# Altium schematic symbol library Sensor Package.SchLib: 153 symbols (part 1 of 2)
Pins are listed as number, name and electrical type; pins without a type are passive.

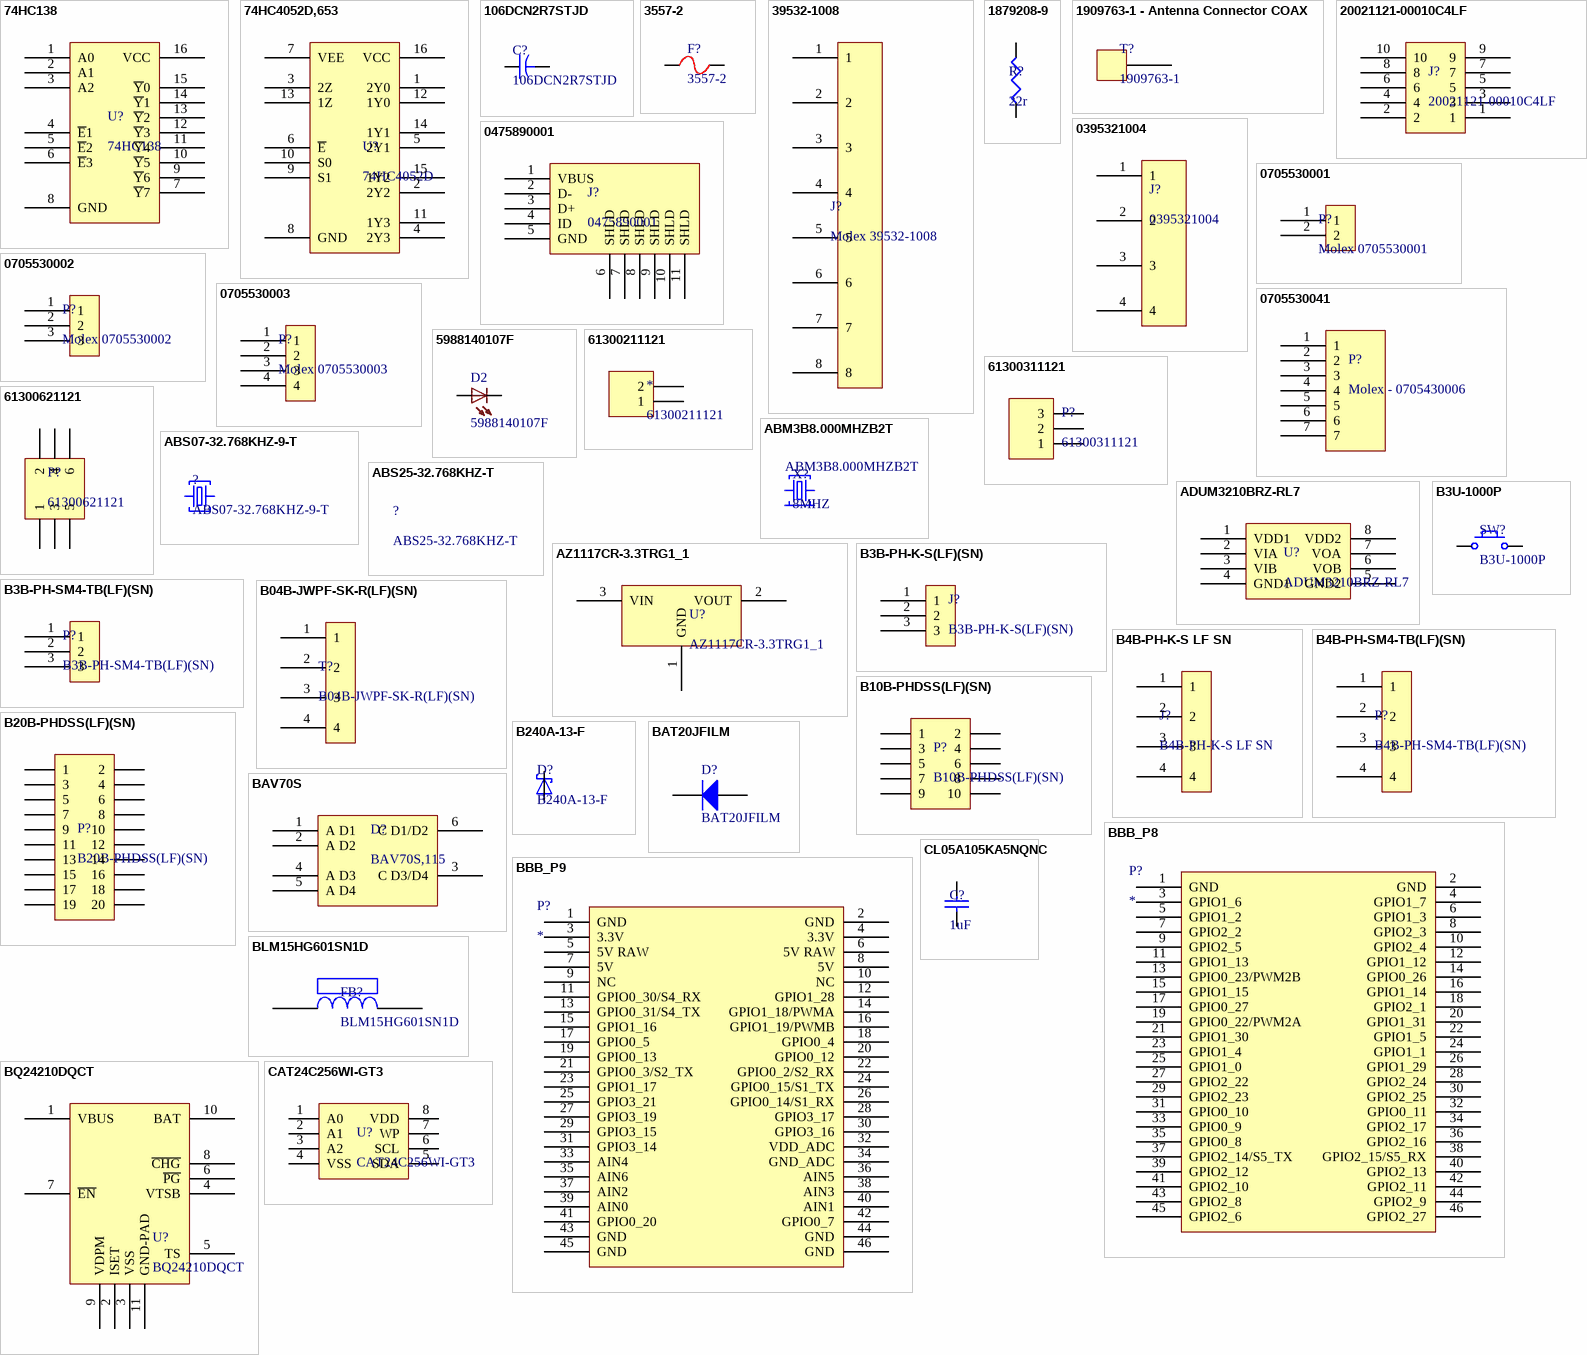
[diagram p0: symbols 74HC138 to CL05A105KA5NQNC]

## 74HC138
designator U?
3-to-8 line decoder/demultiplexer; inverting
footprint 74HC138 (SOIC, 16-Leads, Body 9.90x3.90mm, Pitch 1.27mm, IPC Medium Density)
pins: 1 A0, 2 A1, 3 A2, 4 ~{E}1, 5 ~{E}2, 6 ~{E}3, 7 ~{Y}7, 8 GND, 9 ~{Y}6, 10 ~{Y}5, 11 ~{Y}4, 12 ~{Y}3, 13 ~{Y}2, 14 ~{Y}1, 15 ~{Y}0, 16 VCC

## 74HC4052D,653
designator U?, comment 74HC4052D
IC MUX/DEMUX DUAL 4X1 16SOIC; MFR #: 74HC4052D,653; MFR: NXP-Semiconductors; Pin Count #: 16; Lead-Free ?: Yes; Voltage: 3.3V; Designer: Adam Vadala-Roth; Status: Active; Mounting: SMT/SMD; Datasheet: http://www.nxp.com/documents/data_sheet/74HC_HCT4052.pdf; Height: 1.75mm; Tolerance: N/A; Cost: 0.13695 @ 2500; Type: Analog Mux/Demux 4X1 74xx; Date Created: 14 May 2016; Last Modified: 14 May 2016
footprint 74HC4052 (SOIC, 16-Leads, Body 9.90x3.90mm, Pitch 1.27mm, IPC Medium Density)
pins: 1 2Y0, 2 2Y2, 3 2Z, 4 2Y3, 5 2Y1, 6 ~{E}, 7 VEE, 8 GND, 9 S1, 10 S0, 11 1Y3, 12 1Y0, 13 1Z, 14 1Y1, 15 1Y2, 16 VCC

## 106DCN2R7STJD
designator C?
CAP 10F -20%, +50% 2.7V T/H; MFR: Illinois Capacitor; Pin Count #: 2; Tolerance: 20%; Type: Super Capacitor; Lead-Free ?: Yes; Voltage: 2.7VDC; Designer: Adam Vadala-Roth; MFR #: 106DCN2R7STJD; Status: Available - Digikey; Mounting: Through hole; Datasheet: http://www.illinoiscapacitor.com/pdf/seriesDocuments/DCN%20series.pdf; Height: 27mm; Cost: $0.811; Date Created: 25 Feb 2016; Last Modified: 25 Feb 2016
footprint 106DCN2R7STJD
pins: 1, 2

## 3557-2
designator F?
FUSE BLOCK BLADE 500V 20A PCB; MFR: Keystone-Electronics; Pin Count #: 2; Tolerance: Active; Type: UL Certified ATO Fuse Holder; Lead-Free ?: Yes; Designer: Adam Vadala-Roth; MFR #: 3557-2; Status: Active; Mounting: SMT/SMD; Datasheet: http://keyelco.com/userAssets/file/M65p41.pdf; Height: 7.37mm; Cost: 0.59899 @ 1000; Voltage: 500V; Date Created: 6 May 2016; Last Modified: 6 May 2016; Value: *
footprint 3557
pins: 1, 2

## 39532-1008
designator J?, comment Molex 39532-1008
8 Position Terminal Block Header, Male Pins, Shrouded (4 Side) 0.200" (5.08mm) 90°, Right Angle Through Hole; Pin Count #: 8; Lead-Free ?: Yes; Voltage: 300V; Designer: Adam Vadala-Roth; MFR #: 39532-1008; MFR: Molex; Status: Active; Mounting: SMT/SMD; Datasheet: http://www.molex.com/pdm_docs/sd/395321002_sd.pdf; Height: 8.3mm; Tolerance: *; Cost: 1.26 @ 1000; Type: Terminal Block Header Connector; Date Created: 6 May 2016; Last Modified: 6 May 2016
footprint 39532-1008
pins: 1, 2, 3, 4, 5, 6, 7, 8

## 1879208-9
designator R?, comment 22r
RES SMD 22 OHM 0.1% 1/16W 0402; MFR #: 1879208-9; MFR: TE Connectivity AMP Connectors; Pin Count #: 2; Lead-Free ?: Yes; Designer: Adam Vadala-Roth; Status: Active; Mounting: SMT/SMD; Datasheet: http://www.te.com/commerce/DocumentDelivery/DDEController?Action=srchrtrv&DocNm=1879208&DocType=Customer+Drawing&DocLang=English; Height: 0.35mm; Tolerance: 0.1%; Cost: 0.10921 @ 1000; Type: Passive / Chip Resistor; Voltage: 1/16W; Date Created: 4 Apr 2016; Last Modified: 4 Apr 2016; Value: 22r
footprint R0402
pins: 1, 2

## 1909763-1 - Antenna Connector COAX
designator T?, comment 1909763-1
UMCC Connector Jack, Male Pin 50 Ohm Surface Mount Solder; MFR: TE Connectivity AMP Connectors; Pin Count #: 3; Type: COAX RF Connector; Lead-Free ?: Yes; Designer: Adam Vadala-Roth; MFR #: 1909763-1; Status: Active; Mounting: SMT/SMD; Datasheet: file:///C:/Users/adam/Downloads/ENG_CD_1909763_B2.pdf; Height: 1.25mm; Tolerance: N/A; Cost: 0.24 @ 5000; Voltage: *; Date Created: 18 Aug 2016; Last Modified: 18 Aug 2016
footprint 1909763-1 (1909763-1 Coax Antenna Connector)
pins: 1

## 20021121-00010C4LF
designator J?
20021121-00010C4LF ARM COrtex JTAG; MFR: Amphenol FCI; Pin Count #: 10; Lead-Free ?: Yes; Designer: Adam Vadala-Roth; MFR #: 20021121-00010C4LF; Status: Active; Mounting: SMT/SMD; Datasheet: http://portal.fciconnect.com/Comergent//fci/drawing/20021121.pdf; Height: 5.5mm; Tolerance: N/A; Cost: 0.32 @ 15000; Type: Passive / Pin Connector Male; Voltage: *; Date Created: 12 Mar 2016; Last Modified: 3 Apr 2016
footprint FTSH-105-XX-X-DV (1.27mm pitch, 10 pin, terminal strip; vertical, SMT)
pins: 1, 2, 3, 4, 5, 6, 7, 8, 9, 10

## 0395321004
designator J?
4 Position Terminal Block Header, Male Pins, Shrouded (4 Side) 0.200" (5.08mm) 90°, Right Angle Through Hole; MFR #: Molex,-LLC; Pin Count #: 2; Lead-Free ?: yes; Voltage: 500V; Designer: Adam Vadala-Roth; MFR: Molex,-LLC; Status: Active; Mounting: SMT/SMD; Datasheet: http://www.molex.com/pdm_docs/sd/395321002_sd.pdf; Height: 8.3mm; Tolerance: *; Cost: 0.57 @ 1000; Type: 5.08mm Pitch Right Angle Connector Molex; Date Created: 6 May 2016; Last Modified: 6 May 2016; Value: *
footprint 0395321004
pins: 1, 2, 3, 4

## 0475890001
designator J?
USB - micro AB Receptacle Connector 5 Position Surface Mount, Right Angle, Horizontal; MFR: Molex LLC; Pin Count #: 11; Lead-Free ?: Yes; Voltage: 5V; Designer: Adam Vadala-Roth; MFR #: 0475890001; Status: Active; Mounting: SMT/SMD & Through hole; Datasheet: http://www.molex.com/pdm_docs/sd/475890001_sd.pdf; Height: 2.5mm; Tolerance: N/A; Cost: 0.50908 @ 500; Type: USB micro b connector; Date Created: 17 May 2016; Last Modified: 17 May 2016
footprint 0475890001 (0475890001 - Micro USB b Molex LLC)
pins: 1 VBUS, 2 D-, 3 D+, 4 ID, 5 GND, 6 SHLD, 7 SHLD, 8 SHLD, 9 SHLD, 10 SHLD, 11 SHLD

## 0705530001
designator P?, comment Molex 0705530001
Molex 0705530002 Right Angle 2.54mm Shrouded Header; MFR: Molex; MFR#: 0705530001; Type: 2.54mm shrouded 2 pin right angle throughhole connector; Digikey #: WM4900-ND
footprint 0705530001
pins: 1, 2

## 0705530002
designator P?, comment Molex 0705530002
Molex 0705530002 Right Angle 2.54mm Shrouded Header; MFR: Molex; MFR#: 0705530002; Type: 2.54mm shrouded 3 pin right angle throughhole connector; Digikey #: WM4901-ND
footprint 0705530002
pins: 1, 2, 3

## 0705530003
designator P?, comment Molex 0705530003
Molex 0705530003 Right Angle 2.54mm Shrouded Header; MFR: Molex; MFR#: 0705530003; Type: 2.54mm shrouded 4 pin right angle throughhole connector; Digikey #: WM4902-ND
footprint 0705530003 (Molex 2.54mm 0705530003)
pins: 1, 2, 3, 4

## 0705530041
designator P?, comment Molex - 0705430006
0705530041; MFR: Molex; MFR#: 0705530041
footprint 0705530041 (Molex - 0705530041)
pins: 1, 2, 3, 4, 5, 6, 7

## 5988140107F
designator D2
LED 0805 Yellow; LastRevisionNote: ImportComponents; Published: 23-Apr-2014; Publisher: UltiMachine; LastRevisionDate: 23-Apr-2014; VALUE: 5988140107F
footprint LED2012120
pins: A, C

## 61300211121
designator *
2 Positions Header, Unshrouded Connector 0.100" (2.54mm) Through Hole Gold; MFR: Wurth-Electronics-Inc; Pin Count #: 2; Lead-Free ?: Yes; Designer: Adam Vadala-Roth; MFR #: 61300211121; Status: Active; Mounting: SMT/SMD; Datasheet: http://katalog.we-online.de/em/datasheet/6130xx11121.pdf; Height: 8.54mm; Tolerance: N/A; Cost: 0.08910 @ 500; Type: Throughhole Pin Header 2,54mm Pitch; Voltage: N/A; Date Created: 14 May 2016; Last Modified: 14 May 2016; Value: 61300211121
footprint 61300211121 (Connector; Header; 2 Position MOLEX 61300211121)
pins: 1, 2

## 61300311121
designator P?
3 Positions Header, Unshrouded Connector 0.100" (2.54mm) Through Hole Gold; MFR: Wurth-Electronics-Inc; Pin Count #: 3; Lead-Free ?: Yes; Designer: Adam Vadala-Roth; MFR #: 61300311121; Status: Active; Mounting: SMT/SMD; Datasheet: http://katalog.we-online.de/em/datasheet/6130xx11121.pdf; Height: 8.54mm; Tolerance: N/A; Cost: 0.10396 @ 500; Type: Throughhole Pin Header 2.54mm Pitch; Voltage: N/A; Date Created: 14 May 2016; Last Modified: 14 May 2016; Value: 61300311121
footprint 61300311121 (Connector; Header; 3 Position MOLEX 61300311121)
pins: 1, 2, 3

## 61300621121
designator P?
6 Positions Header, Unshrouded Connector 0.100" (2.54mm) Through Hole Gold; MFR: Wurth-Electronics-Inc; Pin Count #: 3; Lead-Free ?: Yes; Designer: Adam Vadala-Roth; MFR #: 61300621121; Status: Active; Mounting: SMT/SMD; Datasheet: http://katalog.we-online.de/em/datasheet/6130xx21121.pdf; Height: 8.54mm; Tolerance: N/A; Cost: 0.38610 @ 500; Type: Throughhole 2.54mm Pitch Pin Header; Voltage: N/A; Date Created: 14 May 2016; Last Modified: 14 May 2016; Value: 61300621121
footprint 61300621121 (Connector; Header; 3x2 Position MOLEX 61300621121)
pins: 1, 2, 3, 4, 5, 6

## ABM3B8.000MHZB2T
designator X?, comment 8MHZ  MFR #: ABM3B8.000MHZB2T
8MHz ±20ppm Crystal 18pF 200 Ohm 20°  C ~ 70°C  Surface Mount 4SMD,  No Lead (DFN, LCC); MFR: Abracon LLC; Pin Count #: 2; Lead-Free ?: Yes; Designer: Adam Vadala-Roth; Status: Active; Mounting: SMT/SMD; Datasheet: http://www.abracon.com/Resonators/abm3b.pdf; Height: 1.10mm; Tolerance: 20ppm; Cost: 0.30450 @ 5000; Type: Passive/Crystal; Voltage: *; Date Created: 31 Mar 2016; Last Modified: 31 Mar 2016; Value: 8MHZ; Loading Capacitance: 18pF
footprint ABM3B8.000MHZB2T
pins: 1 C1, 2, 3 C2, 4

## ABS07-32.768KHZ-9-T
designator ?
32.768kHz ±20ppm Crystal 9pF 70 kOhm -40°C ~ 85°C Surface Mount 2-SMD; MFR: Abracon LLC; Pin Count #: 2; Lead-Free ?: Yes; Designer: Adam Vadala-Roth; MFR #: ABS07-32.768KHZ-9-T; Status: Active; Mounting: SMT/SMD; Datasheet: http://www.abracon.com/Resonators/ABS07.pdf; Height: 2.5mm; Tolerance: ±20ppm; Cost: 0.18000 @ 3K; Type: Crystal Oscillator; Voltage: *; Date Created: 11 Mar 2016; Last Modified: 11 Mar 2016; Value: *; Loading Capacitance: 9pF
footprint ABS07-32.768KHZ-9-T (Two Pin Crystal Oscilator)
pins: 1 C1, 2 C2

## ABS25-32.768KHZ-T
designator ?
32.768kHz ±20ppm Crystal 12.5pF 50 kOhm -40°C ~ 85°C Surface Mount 4-SOJ, 5.50mm pitch; MFR: Abracon LLC; Pin Count #: 2; Lead-Free ?: Yes; Designer: Adam Vadala-Roth; MFR #: ABS25-32.768KHZ-T; Status: Active; Mounting: SMT/SMD; Datasheet: http://www.abracon.com/Resonators/abs25.pdf; Height: 2.5mm; Tolerance: ±20ppm; Cost: 0.18000 @ 3K; Type: Crystal Oscillator; Voltage: *; Date Created: 11 Mar 2016; Last Modified: 11 Mar 2016; Value: *; Loading Capacitance: 12.5pF

## ADUM3210BRZ-RL7
designator U?
DGTL ISO 2.5KV GEN PURP 8SOIC; MFR: Analog Devices; RHoS?: yes; MFR#: ADUM3210BRZ-RL7; Digikey #: ADUM3210BRZ-RL7CT-ND; Type: 8 pin SOIC; Revision Date: April 2015
footprint ADUM3210BRZ-RL7 (SOIC, 8-Leads, Body 4.90x3.90mm, Pitch 1.27mm, IPC Medium Density)
pins: 1 VDD1, 2 VIA, 3 VIB, 4 GND1, 5 GND2, 6 VOB, 7 VOA, 8 VDD2

## AZ1117CR-3.3TRG1_1
designator U?
IC REG LDO 3.3V 0.8A SOT89; MFR: Diodes Inc; Pin Count #: 4; Lead-Free ?: Yes; Voltage: 3V3; Designer: Adam Vadala-Roth; MFR #: AZ1117CR-3.3TRG1; Status: Active; Mounting: SMT/SMD; Datasheet: http://www.diodes.com/_files/datasheets/AZ1117C.pdf; Height: *; Tolerance: *; Cost: *; Type: LDO Voltage Regulator; Date Created: 8 Mar 2016; Last Modified: 8 Mar 2016
footprint AZ1117CR-3.3TRG1 - SOT89-150P410X160-3N (SOT89, 3-Leads, Body 4.50x2.45mm, Pitch 1.50mm, Lead Span 4.1mm, IPC Medium Density)
pins: 1 GND, 2 VOUT, 3 VIN

## B3B-PH-K-S(LF)(SN)
designator J?
CONN HEADER PH TOP 3POS 2MM; MFR: JST; Pin Count #: 2; Lead-Free ?: Yes; Designer: Adam Vadala-Roth; MFR #: B3B-PH-K-S(LF)(SN); Status: Available; Mounting: Throughhole; Datasheet: http://www.jst-mfg.com/product/pdf/eng/ePH.pdf; Height: *; Tolerance: *; Cost: $0.19; Type: Connector 2mm Pitch Shrouded Pin; Voltage: *; Date Created: 26 Feb 2016; Last Modified: 26 Feb 2016
footprint B3B-PH-K-S(LF)(SN)
pins: 1, 2, 3

## B3B-PH-SM4-TB(LF)(SN)
designator P?
CONN HEADER PH SIDE 3POS 2MM SMD; MFR: JST; Pin Count #: 2; Lead-Free ?: YEs; Designer: Adam Vadala-Roth; MFR #: B3B-PH-SM4-TB(LF)(SN); Status: Available; Mounting: SMT; Datasheet: http://www.jst-mfg.com/product/pdf/eng/ePH.pdf; Height: 6.6mm; Cost: 0.26; Type: 2mm Pith Shroaded Pin Male Header; Voltage: *; Date Created: 25 Feb 2016; Last Modified: 25 Feb 2016
footprint B3B-PH-SM4-TB(LF)(SN) (3 pin SMT connector)
pins: 1, 2, 3

## B3U-1000P
designator SW?
SWITCH TACTILE SPST-NO 0.05A 12V; MFR: OMRON; Pin Count #: 2; Lead-Free ?: Yes; Voltage: 12VDC; Designer: Adam Vadala-Roth; MFR #: B3U-1000P; Status: Active; Mounting: SMT/SMD; Datasheet: http://www.omron.com/ecb/products/pdf/en-b3u.pdf; Height: 1.6; Tolerance: N/A; Cost: 0.55 @7000; Type: Passive/Switch; Date Created: 2 Apr 2016; Last Modified: 2 Apr 2016
footprint B3U-1000P (Tactile Switch    B3U-1000P)
pins: 1, 2

## B04B-JWPF-SK-R(LF)(SN)
designator T?
4 Positions Header, Shrouded Connector 0.079" (2.00mm) Through Hole Tin; MFR: JST Sales America Inc.; Pin Count #: 4; Lead-Free ?: Yes; Voltage: 100V; Designer: Adam Vadala-Roth; MFR #: B04B-JWPF-SK-R(LF)(SN); Status: Active; Mounting: Through Hole; Datasheet: http://www.jst-mfg.com/product/pdf/eng/eJWPF1.pdf; Height: *; Tolerance: N/A; Cost: $2.14; Type: Connector; Date Created: 8/14/2016; Last Modified: 8/14/2016
footprint B04B-JWPF-SK-R(LF)(SN)
pins: 1, 2, 3, 4

## B4B-PH-K-S LF SN
designator J?
CONN HEADER PH TOP 4POS 2MM; MFR #: B4B-PH-K-S(LF)(SN); MFR: JST; Pin Count #: 2; Lead-Free ?: Yes; Designer: Adam Vadala-Roth; Status: Available; Mounting: Throughhole; Datasheet: http://www.jst-mfg.com/product/pdf/eng/ePH.pdf; Height: *; Tolerance: *; Cost: $0.24; Type: Connector 2mm Pitch Shrouded Pin; Voltage: *; Date Created: 26 Feb 2016; Last Modified: 26 Feb 2016
footprint B4B-PH-K-S(LF)(SN)
pins: 1, 2, 3, 4

## B4B-PH-SM4-TB(LF)(SN)
designator P?
CONN HEADER PH SIDE 4POS 2MM SMD; MFR: JST; Pin Count #: 2; Lead-Free ?: YEs; Designer: Adam Vadala-Roth; MFR #: B4B-PH-SM4-TB(LF)(SN); Status: Available; Mounting: SMT; Datasheet: http://www.jst-mfg.com/product/pdf/eng/ePH.pdf; Height: 6.6mm; Cost: 0.26; Type: 2mm Pith Shroaded Pin Male Header; Voltage: *; Date Created: 25 Feb 2016; Last Modified: 25 Feb 2016
footprint B4B-PH-SM4-TB(LF)(SN)
pins: 1, 2, 3, 4

## B10B-PHDSS(LF)(SN)
designator P?
10 Positions Header, Shrouded Connector 0.079" (2.00mm) Through Hole Tin; MFR: JST Sales America Inc.; Pin Count #: 10; Lead-Free ?: Yes; Designer: Adam Vadala-Roth; MFR #: B10B-PHDSS(LF)(SN); Status: Active; Mounting: Through Hole; Datasheet: http://www.jst-mfg.com/product/pdf/eng/ePHD.pdf; Height: 8.6mm; Tolerance: N/A; Cost: 0.216 @ 2500; Type: Shrouded 2mm pitch pin connector; Voltage: N/A; Date Created: 28 Apr 2016; Last Modified: 28 Apr 2016
footprint B10B-PHDSS(LF)(SN) (10 Positions Header, Shrouded Connector 0.079" (2.00mm) Through Hole Tin)
pins: 1, 2, 3, 4, 5, 6, 7, 8, 9, 10

## B20B-PHDSS(LF)(SN)
designator P?
20 Positions Header, Shrouded Connector 0.079" (2.00mm) Through Hole Tin; MFR: JST Sales America Inc.; Pin Count #: 20; Lead-Free ?: Yes; Designer: Adam Vadala-Roth; MFR #: B20B-PHDSS(LF)(SN); Status: Active; Mounting: Through Hole; Datasheet: http://www.jst-mfg.com/product/pdf/eng/ePHD.pdf; Height: 8.6mm; Tolerance: N/A; Cost: 0.34 @ 2500; Type: Shrouded 2mm pitch pin connector; Voltage: N/A; Date Created: 28 Apr 2016; Last Modified: 28 Apr 2016
footprint B20B-PHDSS(LF)(SN) (20 Pin 2mm Pitch Throughhole shrouded Male Pin Connector)
pins: 1, 2, 3, 4, 5, 6, 7, 8, 9, 10, 11, 12, 13, 14, 15, 16, 17, 18, 19, 20

## B240A-13-F
designator D?
DIODE SCHOTTKY 40V 2A SMA; MFR: Diodes-Incorporated; Pin Count #: 2; Type: Schottky Diode; Lead-Free ?: Yes; Designer: Adam Vadala-Roth; MFR #: B240A-13-F; Status: Active; Mounting: SMT/SMD; Datasheet: http://www.diodes.com/_files/datasheets/ds13004.pdf; Height: 2.3mm; Tolerance: *; Cost: 0.0935 @ 10K; Voltage: 40V; Date Created: 6 May 2016; Last Modified: 6 May 2016
footprint B240A-13-F
pins: A, C

## BAT20JFILM
designator D?
DIODE SCHOTTKY 23V 1A SOD323; MFR: ST Microelectronics; Designer: Adam J Valala-Roth; Published: 25 Feb 2016; LatestRevisionDate: 25 Feb 2016; Mounting: SMT; Publisher: Altium Limited; Package: DO-214-AB/SMC; 2 C-Bend Leads; Body 7.9 x 5.9 mm, inc. leads (LxW); MFR #: BAT20JFILM; Digikey #: 497-3381-1-ND; Height: *; Cost: $0.44
simulation model DIODE (Diode)
signal-integrity model Diode
footprint BAT20JFILM - DIOM1712X11N (Molded Diode, 2-Leads, Body 1.66x1.23mm, IPC Medium Density)
pins: 1 A, 2 K

## BAV70S
designator D?, comment BAV70S,115
DIODE ARRAY GP 100V 250MA 6TSSOP; MFR: NXP; Pin Count #: 6; Lead-Free ?: Yes; Designer: Adam Vadala-Roth; MFR #: BAV70S,115; Status: Active; Mounting: SMT/SMD; Datasheet: http://www.nxp.com/documents/data_sheet/BAV70_SER.pdf; Height: 1.1mm; Tolerance: N/A; Cost: 0.055 @ 15K; Type: Diode Array; Voltage: 100V; Date Created: 1 May 2016; Last Modified: 1 May 2016
footprint BAV70S (SOTFL, 6-Leads, Body 2.00x2.10mm, Pitch 0.65mm, IPC Medium Density)
pins: 1 A D1, 2 A D2, 3 C D3/D4, 4 A D3, 5 A D4, 6 C D1/D2

## BBB_P8
designator P?
footprint BBB_CAPE_HEADER (46-pin male header for BeagleBone Black P8,P9)
pins: 1 GND, 2 GND, 3 GPIO1_6, 4 GPIO1_7, 5 GPIO1_2, 6 GPIO1_3, 7 GPIO2_2, 8 GPIO2_3, 9 GPIO2_5, 10 GPIO2_4, 11 GPIO1_13, 12 GPIO1_12, 13 GPIO0_23/PWM2B, 14 GPIO0_26, 15 GPIO1_15, 16 GPIO1_14, 17 GPIO0_27, 18 GPIO2_1, 19 GPIO0_22/PWM2A, 20 GPIO1_31, 21 GPIO1_30, 22 GPIO1_5, 23 GPIO1_4, 24 GPIO1_1, 25 GPIO1_0, 26 GPIO1_29, 27 GPIO2_22, 28 GPIO2_24, 29 GPIO2_23, 30 GPIO2_25, 31 GPIO0_10, 32 GPIO0_11, 33 GPIO0_9, 34 GPIO2_17, 35 GPIO0_8, 36 GPIO2_16, 37 GPIO2_14/S5_TX, 38 GPIO2_15/S5_RX, 39 GPIO2_12, 40 GPIO2_13, 41 GPIO2_10, 42 GPIO2_11, 43 GPIO2_8, 44 GPIO2_9, 45 GPIO2_6, 46 GPIO2_27

## BBB_P9
designator P?
footprint BBB_CAPE_HEADER (46-pin male header for BeagleBone Black P8,P9)
pins: 1 GND, 2 GND, 3 3.3V, 4 3.3V, 5 5V RAW, 6 5V RAW, 7 5V, 8 5V, 9 NC, 10 NC, 11 GPIO0_30/S4_RX, 12 GPIO1_28, 13 GPIO0_31/S4_TX, 14 GPIO1_18/PWMA, 15 GPIO1_16, 16 GPIO1_19/PWMB, 17 GPIO0_5, 18 GPIO0_4, 19 GPIO0_13, 20 GPIO0_12, 21 GPIO0_3/S2_TX, 22 GPIO0_2/S2_RX, 23 GPIO1_17, 24 GPIO0_15/S1_TX, 25 GPIO3_21, 26 GPIO0_14/S1_RX, 27 GPIO3_19, 28 GPIO3_17, 29 GPIO3_15, 30 GPIO3_16, 31 GPIO3_14, 32 VDD_ADC, 33 AIN4, 34 GND_ADC, 35 AIN6, 36 AIN5, 37 AIN2, 38 AIN3, 39 AIN0, 40 AIN1, 41 GPIO0_20, 42 GPIO0_7, 43 GND, 44 GND, 45 GND, 46 GND

## BLM15HG601SN1D
designator FB?
FERRITE BEAD 600 OHM 0402 1LN; MFR: Murata Electronics North America; Pin Count #: 2; Tolerance: 700 mOhm; Type: Passive / Ferrite; Lead-Free ?: Yes; Voltage: 3.3VDC; Designer: Adam Vadala-Roth; MFR #: BLM15HG601SN1D; Status: Active; Mounting: SMT/SMD; Datasheet: http://search.murata.co.jp/Ceramy/image/img/PDF/ENG/L0110S0101BLM15H.pdf; Height: 0.55mm; Cost: 0.05090 @ 10000; Date Created: 4 Apr 2016; Last Modified: 2 Apr 2016; Value: BLM15HG601SN1D
footprint BLM15HG601SN1D (Chip Inductor, 2-Leads, Body 1.00x0.50mm, IPC Medium Density)
pins: 1, 2

## BQ24210DQCT
designator U?
IC BATT CHARGER LI-ION 10WSON (USB & SOLAR Input); MFR: Texas Instruments; Pin Count #: 8; Lead-Free ?: Yes; Voltage: 3.5-18V; Designer: Adam J Vadala-Roth; MFR #: BQ24210DQCT; Status: Active; Mounting: SMT/SMD; Datasheet: http://www.ti.com/lit/ds/symlink/bq24210.pdf; Height: 0.8mm; Tolerance: N/A; Cost: 1.46250 @ 1250; Type: Solar Battery charger; Date Created: 6 Mar 2016; Last Modified: 6 Mar 2016
footprint bq24210 - QFN50P300X200X80-10N (QFN, 10-Leads, Body 3.00x2.00mm, Pitch 0.50mm, IPC Medium Density)
pins: 1 VBUS, 2 ISET, 3 VSS, 4 VTSB, 5 TS, 6 ~{PG}, 7 ~{EN}, 8 ~{CHG}, 9 VDPM, 10 BAT, 11 GND-PAD

## CAT24C256WI-GT3
designator U?
IC EEPROM 256KBIT 400KHZ 8SOIC; MFR: ON-Semiconductor; Pin Count #: 6; Lead-Free ?: Active; Voltage: 3.3v; Designer: Adam Vadala-Roth; MFR #: CAT24C256WI-GT3; Status: Active; Mounting: SMT/SMD; Datasheet: http://www.onsemi.com/pub_link/Collateral/CAT24C256-D.PDF; Height: 1.75mm; Tolerance: *; Cost: 0.21879 @ 6k; Type: EEEPROM; Date Created: 6 May 2016; Last Modified: 6 May 2016
footprint CAT24C256 (SOIC 8)
pins: 1 A0, 2 A1, 3 A2, 4 VSS, 5 SDA, 6 SCL, 7 WP, 8 VDD

## CL05A105KA5NQNC
designator C?, comment 1uF
1µF ±10% 25V X5R Ceramic Capacitor -55°C ~ 85°C Surface Mount, MLCC 0402 (1005 Metric) 0.039" L x 0.020" W (1.00mm x 0.50mm); MFR #: CL05A105KA5NQNC; MFR: Samsung-Electro-Mechanics-America,-Inc.; Pin Count #: 2; Type: Ceramic Capacitor 0402; Lead-Free ?: Yes; Designer: Adam Vadala-Roth; Status: Active; Mounting: SMT/SMD; Datasheet: https://media.digikey.com/pdf/Data%20Sheets/Samsung%20PDFs/CL_Series_MLCC_ds.pdf; Height: 0.55mm; Tolerance: 10%; Cost: 0.04830 @ 10000; Voltage: 25V; Date Created: 13 May 2016; Last Modified: 13 May 2016; Value: 1uF
footprint C0402
pins: 1, 2

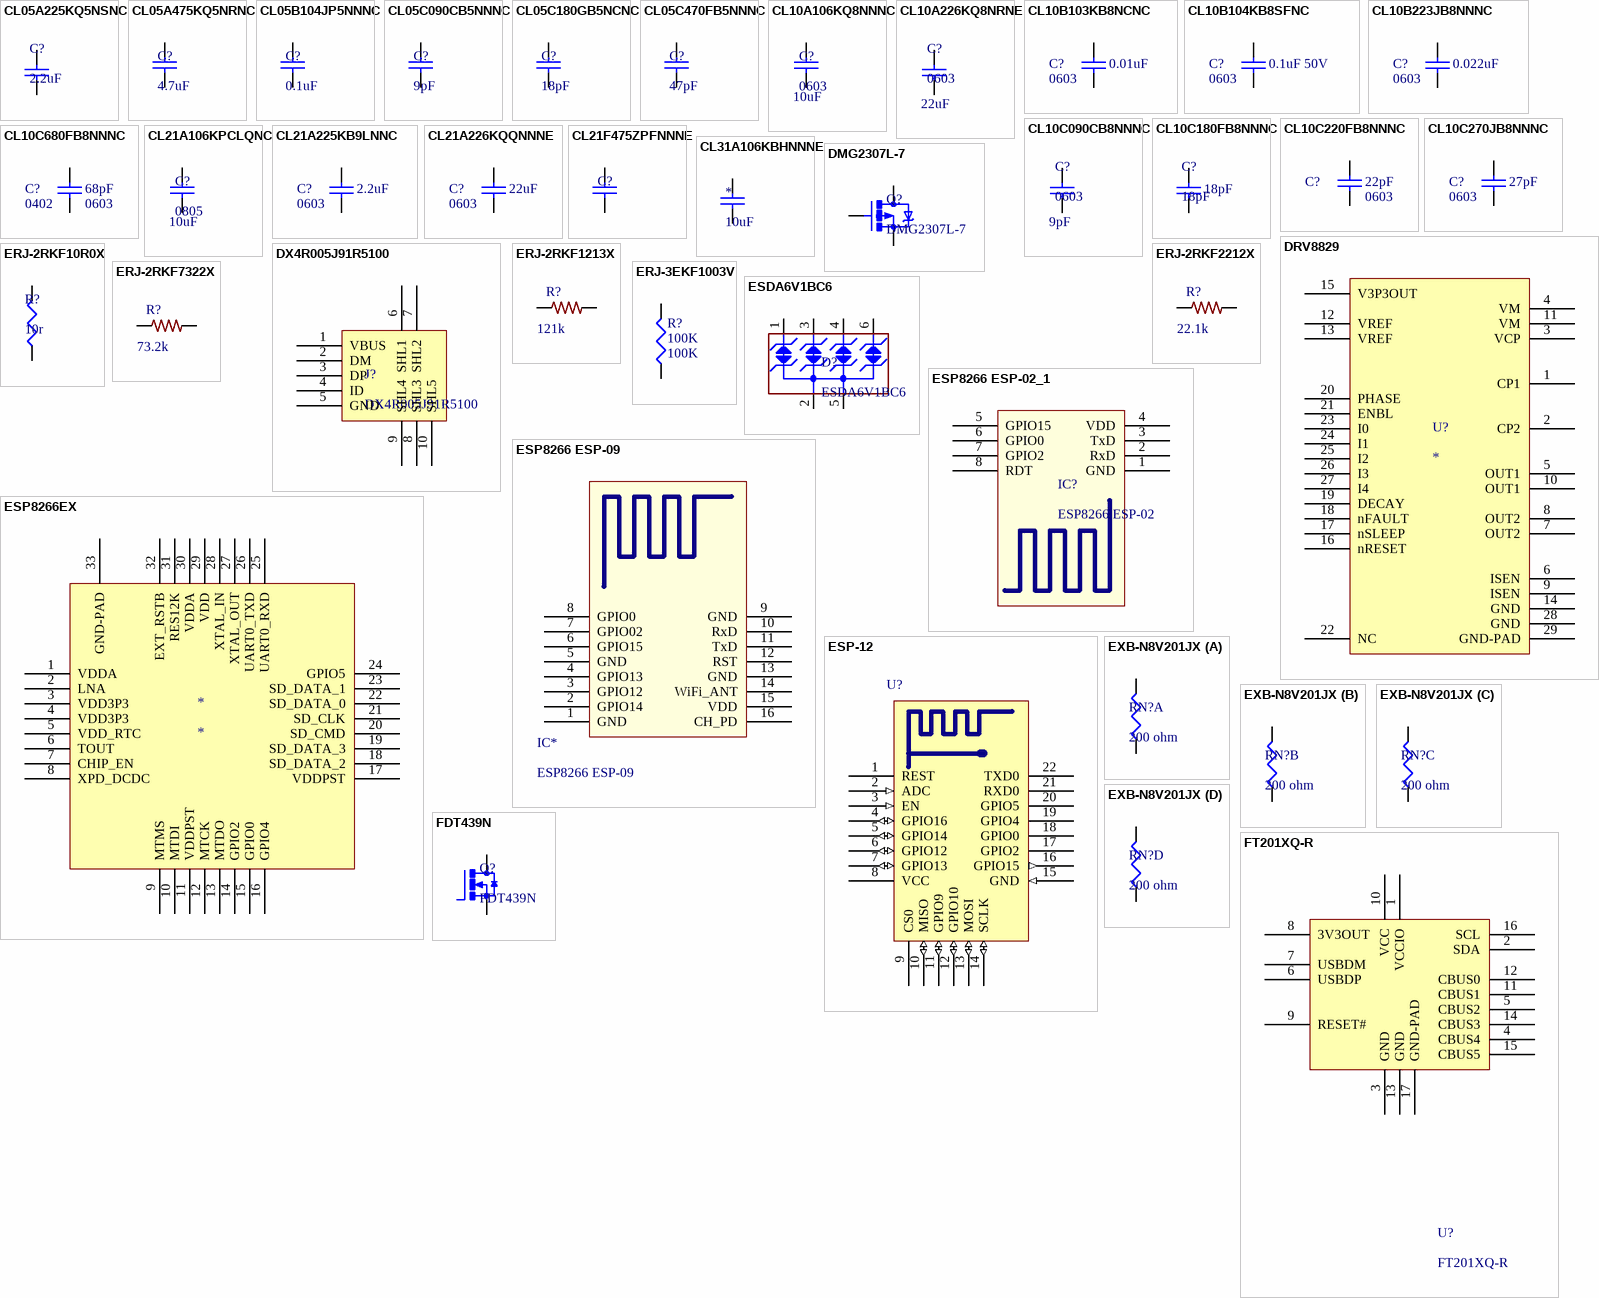
[diagram p1: symbols CL05A225KQ5NSNC to FT201XQ-R]

## CL05A225KQ5NSNC
designator C?, comment 2.2uF
CAP CER 2.2UF 6.3V X5R 0402; MFR #: CL05A225KQ5NSNC; MFR: Samsung Electro-Mechanics America, Inc.; Pin Count #: 2; Tolerance: 10%; Type: Passive/Cap; Lead-Free ?: Yes; Voltage: 6.3VDC; Designer: Adam Vadala-Roth; Status: Active; Mounting: SMT/SMD; Datasheet: http://media.digikey.com/pdf/Data%20Sheets/Samsung%20PDFs/CL_Series_MLCC_ds.pdf; Height: 0.55mm; Cost: 0.02936 @ 10,000; Date Created: 31 Mar 2016; Last Modified: 31 Mar 2016; Value: 2.2uF
footprint C0402
pins: 1, 2

## CL05A475KQ5NRNC
designator C?, comment 4.7uF
CAP CER 4.7UF 6.3V X5R 0402; MFR #: CL05A475KQ5NRNC; MFR: Samsung Electro-Mechanics America; Pin Count #: 2; Tolerance: 10%; Type: Passive/Ceramic Cap; Lead-Free ?: Yes; Voltage: 6.3VDC; Designer: Adam Vadala-Roth; Status: Active; Mounting: SMT/SMD; Datasheet: http://www.samsungsem.com/kr/support/product-search/mlcc/CL05A475KQ5NRNC.jsp; Height: 0.55mm; Cost: 0.08 @ 10000; Date Created: 4 Apr 2016; Last Modified: 4 Apr 2016; Value: 4.7uF
footprint C0402
pins: 1, 2

## CL05B104JP5NNNC
designator C?, comment 0.1uF
CAP CER 0.1UF 10V X7R 0402; MFR #: CL05B104JP5NNNC; MFR: Samsung Electro-Mechanics America, Inc.; Pin Count #: 2; Tolerance: 5%; Type: Passive/Ceramic Cap; Lead-Free ?: Yes; Voltage: 10; Designer: Adam Vadala-Roth; Status: Active; Mounting: SMT/SMD; Datasheet: https://www.samsungsem.com/kr/front/downloadcms.do?path=/kr/support/product-search/mlcc/__icsFiles/afieldfile/2014/11/05&fileName=C_CL05B104JP5NNNC.pdf; Height: 0.55mm; Cost: 0.00758 @ 10,000; Date Created: 2 Apr 2016; Last Modified: 2 Apr 2016; Value: 0.1uF
footprint C0402
pins: 1, 2

## CL05C090CB5NNNC
designator C?, comment 9pF
CAP CER 9PF 50V NP0 0402; MFR #: CL05C090CB5NNNC; MFR: Samsung Electro-Mechanics America, Inc.; Pin Count #: 2; Tolerance: 0.25pF; Type: Passive / Ceramic Cap; Lead-Free ?: Yes; Voltage: 50; Designer: Adam Vadala-Roth; Status: Active; Mounting: SMT/SMD; Datasheet: http://media.digikey.com/pdf/Data%20Sheets/Samsung%20PDFs/CL_Series_MLCC_ds.pdf; Height: 0.55mm; Cost: 0.00462 @ 10,000; Date Created: 2 Apr 2016; Last Modified: 2 Apr 2016; Value: 9pF
footprint C0402
pins: 1, 2

## CL05C180GB5NCNC
designator C?, comment 18pF
CAP CER 18PF 50V NP0 0402; MFR #: CL05C180GB5NCNC; MFR: Samsung Electro-Mechanics America, Inc.; Pin Count #: 2; Tolerance: 2%; Type: Passive/Ceramic Cap; Lead-Free ?: yes; Designer: Adam Vadala-Roth; Status: Active; Mounting: SMT/SMD; Datasheet: http://media.digikey.com/pdf/Data%20Sheets/Samsung%20PDFs/CL_Series_MLCC_ds.pdf; Height: 0.55mm; Cost: 0.00756 @ 10,000; Voltage: 50V; Date Created: 2 Apr 2016; Last Modified: 2 Apr 2016; Value: 18pF
footprint C0402
pins: 1, 2

## CL05C470FB5NNNC
designator C?, comment 47pF
47pF ±1% 50V C0G, NP0 Ceramic Capacitor -55°C ~ 125°C Surface Mount, MLCC 0402 (1005 Metric) 0.039" L x 0.020" W (1.00mm x 0.50mm); MFR #: CL05C470FB5NNNC; MFR: Samsung-Electro-Mechanics-America,-Inc.; Pin Count #: 2; Type: Ceramic Cap 0402; Lead-Free ?: Yes; Designer: Adam Vadala-Roth; Status: Active; Mounting: SMT/SMD; Datasheet: https://media.digikey.com/pdf/Data%20Sheets/Samsung%20PDFs/CL_Series_MLCC_ds.pdf; Height: 0.55mm; Tolerance: 1%; Cost: 0.01335 @ 5000; Voltage: 50V; Date Created: 14 May 2016; Last Modified: 14 May 2016; Value: 47pF
footprint C0402
pins: 1, 2

## CL10A106KQ8NNNC
designator C?, comment 0603  value 10uF
CAP CER 10UF 6.3V X5R 0603; MFR #: CL10A106KQ8NNNC; MFR: Samsung Electro-Mechanics America, Inc.; Pin Count #: 2; Tolerance: 10%; Type: Capacitor / Passive; Lead-Free ?: Yes; Designer: Adam Vadala-Roth; Status: Available; Mounting: SMT; Datasheet: http://www.samsungsem.com/kr/support/product-search/mlcc/__icsFiles/afieldfile/2015/08/14/S_CL10A106KQ8NNNC.pdf; Height: 0.9mm; Cost: $0.05145; Voltage: 6.3V; Date Created: 25 Feb 2016; Last Modified: 25 Feb 2016
footprint C0603
pins: 1, 2

## CL10A226KQ8NRNE
designator C?, comment 0603  value 22uF
CAP CER 22UF 6.3V X5R 0603; MFR #: CL10A226KQ8NRNE; MFR: Samsung Electro-Mechanics America, Inc.; Pin Count #: 2; Tolerance: 10%; Type: Capacitor / Passive; Lead-Free ?: Yes; Designer: Adam Vadala-Roth; Status: Available; Mounting: SMT; Datasheet: https://media.digikey.com/pdf/Data%20Sheets/Samsung%20PDFs/CL10A226KQ8NRNE_Spec.pdf; Height: 0.9mm; Cost: $0.07416 @ 3000; Voltage: 6.3V; Date Created: 25 Feb 2016; Last Modified: 25 Feb 2016
footprint C0603
pins: 1, 2

## CL10B103KB8NCNC
designator C?, comment 0603  value 0.01uF
CAP CER 10000PF 50V 10% X7R 0603; MFR Part #: CL10B103KB8NCNC; MFR: Samsung; Voltage: 50VDC; Published: 10 - Dec - 2014; LatestRevisionDate: April 2015; Component Type: Chip Capacitor; Part Description: CAP CER 10000PF 50V 10% X7R 0603; Mounting Type: SMT 0603; Datasheet: http://www.samsungsem.com/kr/front/downloadcms.do?path=/kr/support/product-search/mlcc/__icsFiles/afieldfile/2014/11/05&fileName=S_CL10B103KB8NCNC.pdf; Height: 0.9mm; Tolerance: 10%; Digikey #: 1276-1921-1-ND; PackageReference: 0603
simulation model CAP (Semiconductor Capacitor)
signal-integrity model Cap Semi
footprint C0603
pins: 1, 2

## CL10B104KB8SFNC
designator C?, comment 0603  value 0.1uF 50V
CAP CER 0.1UF 50V 10% X7R 0603; MFR Part #: CL10B104KB8SFNC; MFR: Samsung; Voltage: 50VDC; Published: 10 - Dec - 2014; LatestRevisionDate: April 2015; Component Type: Chip Capacitor; Part Description: CAP CER 0.1UF 50V 10% X7R 0603; Mounting Type: SMT 0603; Datasheet: http://www.samsungsem.com/kr/front/downloadcms.do?path=/kr/support/product-search/mlcc/__icsFiles/afieldfile/2014/11/05&fileName=S_CL10B104KB8SFNC.pdf; Height: 0.9mm; Tolerance: 10%; Digikey #: 1276-1936-1-ND; PackageReference: 0603
simulation model CAP (Semiconductor Capacitor)
signal-integrity model Cap Semi
footprint C0603
pins: 1, 2

## CL10B223JB8NNNC
designator C?, comment 0603  value 0.022uF
CAP CER 0.022UF 50V 5% X7R 0603; MFR Part #: CL10B223JB8NNNC; MFR: Samsung; Tolerance: 10%; Voltage: 50VDC; Published: 10 - Dec - 2014; LatestRevisionDate: April 2015; Component Type: Chip Capacitor; Part Description: CAP CER 0.022UF 50V 5% X7R 0603; Mounting Type: SMT 0603; Datasheet: http://www.samsungsem.com/kr/front/downloadcms.do?path=/kr/support/product-search/mlcc/__icsFiles/afieldfile/2014/11/05&fileName=S_CL10B223JB8NNNC.pdf; Height: 0.9mm; Digikey #: 1276-1996-1-ND; PackageReference: 0603
simulation model CAP (Semiconductor Capacitor)
signal-integrity model Cap Semi
footprint C0603
pins: 1, 2

## CL10C090CB8NNNC
designator C?, comment 0603  value 9pF
CAP CER 9PF 50V NP0 0603; MFR #: CL10C090CB8NNNC; MFR: Samsung Electro-Mechanics America, Inc.; Pin Count #: 2; Tolerance: 10%; Type: Capacitor / Passive; Lead-Free ?: Yes; Voltage: 6.3V; Designer: Adam Vadala-Roth; Status: Available; Mounting: SMT; Datasheet: http://www.samsungsem.com/kr/support/product-search/mlcc/__icsFiles/afieldfile/2015/06/03/CL10C090CB8NNNC.pdf; Height: 0.9mm; Cost: $0.00805 @ 4000; Date Created: 11 Mar 2016; Last Modified: 11 Mar 2016
footprint C0603
pins: 1, 2

## CL10C180FB8NNNC
designator C?, comment 18pF
CAP CER 18PF 50V NP0 0603; MFR #: CL10C180FB8NNNC; MFR: Samsung ElectroMechanics; Pin Count #: 2; Tolerance: 1%; Type: Passive/Cap; Lead-Free ?: Yes; Voltage: 50VDC; Designer: Adam Vadala-Roth; Status: Active; Mounting: SMT/SMD; Datasheet: http://media.digikey.com/pdf/Data%20Sheets/Samsung%20PDFs/CL10C180FB8NNNC_Spec.pdf; Height: 0.9mm; Cost: 0.02387 @ 4000; Date Created: 31 Mar 2016; Last Modified: 31 Mar 2016; Value: 18pF
footprint C0603
pins: 1, 2

## CL10C220FB8NNNC
designator C?, comment value 22pF  (hidden comment: 0603)  (mechanical)
CAP CER 22PF 50V NP0 0603; MFR Part #: CL10C220FB8NNNC; MFR: Samsung; Tolerance: 1%; Voltage: 50VDC; Published: 22 - Feb - 2016; LatestRevisionDate: 22 - Feb - 2016; LatestRevisionNote: HydroPWNics FOotprint added; Publisher: HydroPWNics; Component Type: Chip Capacitor; Part Description: CAP CER 22PF 50V NP0 0603; Mounting Type: SMT 0603; Datasheet: http://www.samsungsem.com/global/front/downloadcms.do?path=%2F%2Fglobal%2F%2Fsupport%2F%2Flibrary%2F%2Fproduct-catalog%2F%2F__icsFiles%2F%2Fafieldfile%2F%2F2015%2F%2F11%2F%2F18&fileName=MLCC_1.pdf; Height: 0.50mm; PackageReference: 0603
simulation model CAP (Semiconductor Capacitor)
signal-integrity model Cap Semi
footprint C0603
pins: 1, 2

## CL10C270JB8NNNC
designator C?, comment 0603  value 27pF
CAP CER 27PF 50V 5% NP0 0603; MFR Part #: CL10C270JB8NNNC; MFR: Samsung; Voltage: 50VDC; Published: 10 - Dec - 2014; LatestRevisionDate: April 2015; Component Type: Chip Capacitor; Part Description: CAP CER 27PF 50V 5% NP0 0603; Mounting Type: SMT 0603; Datasheet: http://www.samsungsem.com/kr/front/downloadcms.do?path=/kr/support/product-search/mlcc/__icsFiles/afieldfile/2014/11/05&fileName=S_CL10C270JB8NNNC.pdf; Height: 0.9mm; Tolerance: 5%; Digikey #: 1276-1921-1-ND; PackageReference: 0603
simulation model CAP (Semiconductor Capacitor)
signal-integrity model Cap Semi
footprint C0603
pins: 1, 2

## CL10C680FB8NNNC
designator C?, comment 0402  value 68pF  PackageReference: 0603  (mechanical)
CAP CER 68PF 50V NP0 0603; MFR Part #: CL10C680FB8NNNC; MFR: Samsung; Tolerance: 1%; Voltage: 50VDC; Published: 22 - Feb - 2016; LatestRevisionDate: 22 - Feb - 2016; LatestRevisionNote: HydroPWNics FOotprint added; Publisher: HydroPWNics; Component Type: Chip Capacitor; Part Description: CAP CER 68PF 50V NP0 0603; Mounting Type: SMT 0603; Datasheet: https://media.digikey.com/pdf/Data%20Sheets/Samsung%20PDFs/CL10C680FB8NNNC_Spec.pdf; Height: 0.8mm
simulation model CAP (Semiconductor Capacitor)
signal-integrity model Cap Semi
footprint C0603
pins: 1, 2

## CL21A106KPCLQNC
designator C?, comment 0805  value 10uF
CAP CER 10UF 10V X5R 0805; MFR #: CL21A106KPCLQNC; MFR: Samsung Electro-Mechanics America, Inc.; Pin Count #: 2; Tolerance: 10%; Type: Capacitor / Passive; Lead-Free ?: Yes; Designer: Adam Vadala-Roth; Status: Available; Mounting: SMT; Datasheet: https://media.digikey.com/pdf/Data%20Sheets/Samsung%20PDFs/CL21A106KPCLQNC_character.pdf; Height: 0.95mm; Cost: $0.03010; Voltage: 10V; Date Created: 25 Feb 2016; Last Modified: 25 Feb 2016; Valie: 10uF
footprint C0805
pins: 1, 2

## CL21A225KB9LNNC
designator C?, comment 0603  value 2.2uF
CAP CER 2.2UF 50V 10% X5R 0805; MFR Part #: CL21A225KB9LNNC; MFR: Samsung; Voltage: 50VDC; Published: 10 - Dec - 2014; LatestRevisionDate: April 2015; Component Type: Chip Capacitor; Part Description: CAP CER 2.2UF 50V 10% X5R 0805; Mounting Type: SMT 0805; Datasheet: http://www.samsungsem.com/kr/front/downloadcms.do?path=/kr/support/product-search/mlcc/__icsFiles/afieldfile/2014/11/05&fileName=S_CL21A225KB9LNNC.pdf; Height: 1mm; Tolerance: 10%; Digikey #: 1276-2409-1-ND; PackageReference: 0805
simulation model CAP (Semiconductor Capacitor)
signal-integrity model Cap Semi
footprint C0805
pins: 1, 2

## CL21A226KQQNNNE
designator C?, comment 0603  value 22uF
CAP CER 22UF 6.3V 10% X5R 0805; MFR Part #: CL21A226KQQNNNE; MFR: Samsung; Voltage: 6.3VDC; Published: April 2015; LatestRevisionDate: April 2015; Component Type: Chip Capacitor; Part Description: CAP CER 22UF 6.3V 10% X5R 0805; Mounting Type: SMT 0805; Datasheet: http://www.digikey.com/product-detail/en/CL21A226KQQNNNE/1276-2907-2-ND/3888565; Height: 1mm; Tolerance: 10%; Digikey #: 1276-2907-2-ND; PackageReference: 0805
simulation model CAP (Semiconductor Capacitor)
signal-integrity model Cap Semi
footprint C0805
pins: 1, 2

## CL21F475ZPFNNNE
designator C?  (value not drawn)
CAP CER 4.7UF 10V Y5V 0805; MFR: Samsung Electro-Mechanics America, Inc.; Pin Count #: 2; Tolerance: 20%; Type: Capacitor/Passive; Lead-Free ?: Yes; Designer: Adam Vadala-Roth; MFR #: CL21F475ZPFNNNE; Status: Available; Mounting: SMT; Datasheet: http://www.samsungsem.com/kr/support/product-search/mlcc/__icsFiles/afieldfile/2015/08/14/S_CL21F475ZPFNNNE.pdf; Height: 1.35mm; Cost: 0.01505; Voltage: 10V; Date Created: 25 Feb 2016; Last Modified: 25 Feb 2016
footprint C0805
pins: 1, 2

## CL31A106KBHNNNE
designator *, comment 10uF
10µF ±10% 50V X5R Ceramic Capacitor -55°C ~ 85°C Surface Mount, MLCC 1206 (3216 Metric) 0.126" L x 0.063" W (3.20mm x 1.60mm); MFR #: CL31A106KBHNNNE; MFR: Samsung-Electro-Mechanics-America,-Inc.; Pin Count #: 2; Lead-Free ?: Yes; Designer: Adam Vadala-Roth; Status: Active; Mounting: SMT/SMD; Datasheet: http://www.samsungsem.com/kr/support/product-search/mlcc/__icsFiles/afieldfile/2015/10/15/S_CL31A106KBHNNNE.pdf; Height: 1.8mm; Tolerance: 10%; Cost: 0.13034 @ 10K; Type: Ceramic Cap / Passive; Voltage: 50V; Date Created: 6 May 2016; Last Modified: 6 May 2016; Value: 10uF
footprint C1206
pins: 1, 2

## DMG2307L-7
designator Q?
MOSFET P-CH 30V 2.5A SOT-23; MFR: Diodes-Incorporated; Pin Count #: 3; Type: P-CHN MOSFET SOT-23; Lead-Free ?: Yes; Designer: Adam Vadala-Roth; MFR #: DMG2307L-7; Status: Active; Mounting: SMT/SMD; Datasheet: http://www.diodes.com/_files/datasheets/DMG2307L.pdf; Height: 1mm; Tolerance: N/A; Cost: 0.08100 @ 3000; Voltage: 30V; Date Created: 14 May 2016; Last Modified: 14 May 2016
footprint DMG2307L-7 - SOT92P240X102-3N (SOT23, 3-Leads, Body 2.85x2.40mm, Pitch 0.92mm, IPC Medium Density)
pins: 1 G, 2 S, 3 D

## DRV8829
designator U?
IC MOTOR DRIVER PAR 28HTSSOP; MFR: Texas Instruments; MFR #: DRV8829PWPR; RHos: Yes; Datasheet: https://www.ti.com/lit/ds/symlink/drv8829.pdf; Digikey #: 296-28829-1-ND
footprint TSSOP28-DRV8829 (TSOP, 28-Leads, Body 9.70x4.40mm, Pitch 0.65mm, Thermal Pad 5.22x3.10mm, IPC Medium Density)
pins: 1 CP1, 2 CP2, 3 VCP, 4 VM, 5 OUT1, 6 ISEN, 7 OUT2, 8 OUT2, 9 ISEN, 10 OUT1, 11 VM, 12 VREF, 13 VREF, 14 GND, 15 V3P3OUT, 16 nRESET, 17 nSLEEP, 18 nFAULT, 19 DECAY, 20 PHASE, 21 ENBL, 22 NC, 23 I0, 24 I1, 25 I2, 26 I3, 27 I4, 28 GND, 29 GND-PAD

## DX4R005J91R5100
designator J?
Micro USB Jack B
footprint DX4R005J91R5100 (Micro USB b With ROund holes instead of Slots)
pins: 1 VBUS, 2 DM, 3 DP, 4 ID, 5 GND, 6 SHL1, 7 SHL2, 8 SHL3, 9 SHL4, 10 SHL5

## ERJ-2RKF10R0X
designator R?, comment 10r
RES SMD 10 OHM 1% 1/10W 0402; MFR #: ERJ-2RKF10R0X; MFR: Panasonic-Electronic-Components; Pin Count #: 2; Tolerance: 10 ohm; Lead-Free ?: Yes; Designer: Adam Vadala-Roth; Status: Active; Mounting: SMT/SMD; Datasheet: http://industrial.panasonic.com/cdbs/www-data/pdf/RDA0000/AOA0000C86.pdf; Height: 0.4mm; Cost: 0.00355 @ 1000; Type: Chip Resistor / Passive; Voltage: 1/10W; Date Created: 6 May 2016; Last Modified: 6 May 2016; Value: 10r
footprint R0402
pins: 1, 8

## ERJ-2RKF1213X
designator R?, comment 121k
RES SMD 121K OHM 1% 1/10W 0402; Manufacturer: Panasonic; ManufacturerPartNumber: ERJ-2RKF1213X; LastRevisionNote: ImportComponents; Heigh: 0.5mm; Published: 22-Feb-2016; Publisher: Adam; LastRevisionDate: 23-Apr-2014; PDF: http://industrial.panasonic.com/www-cgi/jvcr13pz.cgi?E+PZ+3+AOA0002+ERJ2RKF1213X+7+WW; VALUE: 121k
signal-integrity model Model Name (Model Description)
simulation model Model Name (Model Description)
footprint R0402
pins: 1, 2

## ERJ-2RKF2212X
designator R?, comment 22.1k
RES SMD 22.1K OHM 1% 1/10W 0402; Manufacturer: Panasonic; ManufacturerPartNumber: ERJ-2RKF2212X; LastRevisionNote: ImportComponents; Heigh: 0.5mm; Published: 22-Feb-2016; Publisher: Adam; LastRevisionDate: 23-Apr-2014; PDF: http://industrial.panasonic.com/www-cgi/jvcr13pz.cgi?E+PZ+3+AOA0002+ERJ2RKF7322X+7+WW; VALUE: 22.1k
signal-integrity model Model Name (Model Description)
simulation model Model Name (Model Description)
footprint R0402
pins: 1, 2

## ERJ-2RKF7322X
designator R?, comment 73.2k
RES SMD 73.2K OHM 1% 1/10W 0402; Manufacturer: Panasonic; ManufacturerPartNumber: ERJ-2RKF7322X; LastRevisionNote: ImportComponents; Heigh: 0.5mm; Published: 22-Feb-2016; Publisher: Adam; LastRevisionDate: 23-Apr-2014; PDF: http://industrial.panasonic.com/www-cgi/jvcr13pz.cgi?E+PZ+3+AOA0002+ERJ2RKF7322X+7+WW; VALUE: 73.2k
signal-integrity model Model Name (Model Description)
simulation model Model Name (Model Description)
footprint R0402
pins: 1, 2

## ERJ-3EKF1003V
designator R?, comment 100K
RES SMD 100K OHM 1% 1/10W 0603; MFR: Panasonic; MFR #: ERJ-3EKF1003V; PackageReference: 0603; Digikey #: P100KHCT-ND; PDF: http://industrial.panasonic.com/www-cgi/jvcr13pz.cgi?E+PZ+3+AOA0002+ERJ3EKF1003V+7+WW; Value: 100K
simulation model RESISTOR (Resistor)
signal-integrity model Res
footprint R0603
pins: 1, 2

## ESDA6V1BC6
designator D?
TVS DIODE 5VWM SOT23-6; MFR: STMicroelectronic; Pin Count #: 6; Type: Diode ARray TVS; Lead-Free ?: yes; Voltage: 4V; Designer: Adam Vadala-Roth; MFR #: ESDA6V1BC6; Status: Active; Mounting: SMT/SMD; Datasheet: http://www2.st.com/content/ccc/resource/technical/document/datasheet/21/07/21/e3/a8/df/42/a2/CD00001906.pdf/files/CD00001906.pdf/jcr:content/translations/en.CD00001906.pdf; Height: 1.3mm; Tolerance: N/A; Cost: 0.126 @ 15K; Date Created: 2 May 2016; Last Modified: 2 May 2016
footprint ESDA6V1BC6
pins: 1 IO1, 2 IO2, 3 GND, 4 IO3, 5 IO4, 6 NC

## ESP8266 ESP-02_1
designator IC?, comment ESP8266 ESP-02
ESP8266 ESP-02 WIFi SoC Module; Pin Count #: 8; Voltage: 3.3V; Designer: Adam Vadala-Roth; MFR #: ESP-02; MFR: *; Status: Active; Mounting: SMT/SMD; Datasheet: *; Height: 4.5mm; Tolerance: N/A; Cost: *; Type: PCB Module (RF/Wireless); Lead-Free ?: N/A; Date Created: 14 May 2016; Last Modified: 14 May 2016
footprint ESP8266 ESP-02
pins: 1 GND, 2 RxD, 3 TxD, 4 VDD, 5 GPIO15, 6 GPIO0, 7 GPIO2, 8 RDT

## ESP8266 ESP-09
designator IC*
footprint ESP8266 ESP-09
pins: 1 GND (power), 2 GPIO14, 3 GPIO12, 4 GPIO13, 5 GND (power), 6 GPIO15, 7 GPIO02, 8 GPIO0, 9 GND (power), 10 RxD, 11 TxD, 12 RST, 13 GND (power), 14 WiFi_ANT, 15 VDD (power), 16 CH_PD

## ESP8266EX
designator *
footprint ESP8266EX (QFN, 32-Leads, Body 5.00x5.00mm, Pitch 0.50mm, Thermal Pad 3.70x3.70mm, IPC Medium Density)
pins: 1 VDDA, 2 LNA, 3 VDD3P3, 4 VDD3P3, 5 VDD_RTC, 6 TOUT, 7 CHIP_EN, 8 XPD_DCDC, 9 MTMS, 10 MTDI, 11 VDDPST, 12 MTCK, 13 MTDO, 14 GPIO2, 15 GPIO0, 16 GPIO4, 17 VDDPST, 18 SD_DATA_2, 19 SD_DATA_3, 20 SD_CMD, 21 SD_CLK, 22 SD_DATA_0, 23 SD_DATA_1, 24 GPIO5, 25 UART0_RXD, 26 UART0_TXD, 27 XTAL_OUT, 28 XTAL_IN, 29 VDD, 30 VDDA, 31 RES12K, 32 EXT_RSTB, 33 GND-PAD

## ESP-12
designator U?, comment ESP-12E  (value not drawn)
Sketchy Chinese ESP8266 Board with Fake FCC Bullshit
footprint ESP8266 ESP-12E
pins: 1 REST, 2 ADC (in), 3 EN (in), 4 GPIO16 (io), 5 GPIO14 (io), 6 GPIO12 (io), 7 GPIO13 (io), 8 VCC (power), 9 CS0 (power), 10 MISO (io), 11 GPIO9 (io), 12 GPIO10 (io), 13 MOSI (io), 14 SCLK (io), 15 GND (in), 16 GPIO15 (out), 17 GPIO2, 18 GPIO0, 19 GPIO4, 20 GPIO5, 21 RXD0, 22 TXD0

## EXB-N8V201JX
designator RN?, comment 200 ohm
RES ARRAY 4 RES 200 OHM 0804; MFR #: EXB-N8V201JX; MFR: Panasonic Electronic Components; Pin Count #: 8; Tolerance: 5%; Lead-Free ?: Yes; Voltage: 31mW; Designer: Adam Vadala-Roth; Status: Active; Mounting: SMT/SMD; Datasheet: https://media.digikey.com/pdf/Data%20Sheets/Panasonic%20Resistors%20Thermistors%20PDFs/EXB_Series.pdf; Height: 0.55mm; Cost: 0.00842	 @10000; Type: Passive / Ceramic Cap; Date Created: 2 Apr 2016; Last Modified: 2 Apr 2016; Value: 200 ohm
footprint EXB-N8V201JX - CAC-50P200X100-8N (Chip Array, Concave, 8-Leads, Pitch 0.50mm,  Body 2.00x1.00mm,  IPC Medium Density)
part A pins: 1, 8
part B pins: 2, 7
part C pins: 3, 6
part D pins: 4, 5

## FDT439N
designator Q?
MOSFET N-CH 30V 6.3A SOT-223; MFR: Fairchild SemiConductor; Pin Count #: 3; Type: NPN N-Channel MOSFET; Lead-Free ?: Yes; Designer: Adam Vadala-Roth; MFR #: FDT439N; Status: Active; Mounting: SMT/SMD; Datasheet: https://www.fairchildsemi.com/datasheets/FD/FDT439N.pdf; Height: 1.8mm; Tolerance: *; Cost: 0.29634  @ 1000; Voltage: 30V; Date Created: 6 May 2016; Last Modified: 6 May 2016
footprint FDT439N (SOT223, 4-Leads, Body 6.60x7.08mm (avg), Pitch 2.30mm, IPC Medium Density)
pins: 1 S, 2 S, 3 S, 4 G, MB D

## FT201XQ-R
designator U?
IC USB FS I2C 16QFN; MFR: FTDI; Pin Count #: 16; Lead-Free ?: yes; Voltage: 3V3/5V; Designer: Adam Vadala-Roth; MFR #: FT201XQ-R; Status: Active; Mounting: SMT/SMD; Datasheet: http://www.ftdichip.com/Support/Documents/DataSheets/ICs/DS_FT201X.pdf; Height: 0.8mm; Tolerance: *; Cost: *; Type: USB to I2C converter; Date Created: 14 Mar 2016; Last Modified: 14 Mar 2016
footprint FT201XQ-R - QFN65P400X400X80_HS-17N (QFN, 16-Leads, Body 4.00x4.00mm, Pitch 0.65mm, Thermal Pad 2.08x2.08mm, IPC Medium Density)
pins: 1 VCCIO, 2 SDA, 3 GND, 4 CBUS4, 5 CBUS2, 6 USBDP, 7 USBDM, 8 3V3OUT, 9 RESET#, 10 VCC, 11 CBUS1, 12 CBUS0, 13 GND, 14 CBUS3, 15 CBUS5, 16 SCL, 17 GND-PAD

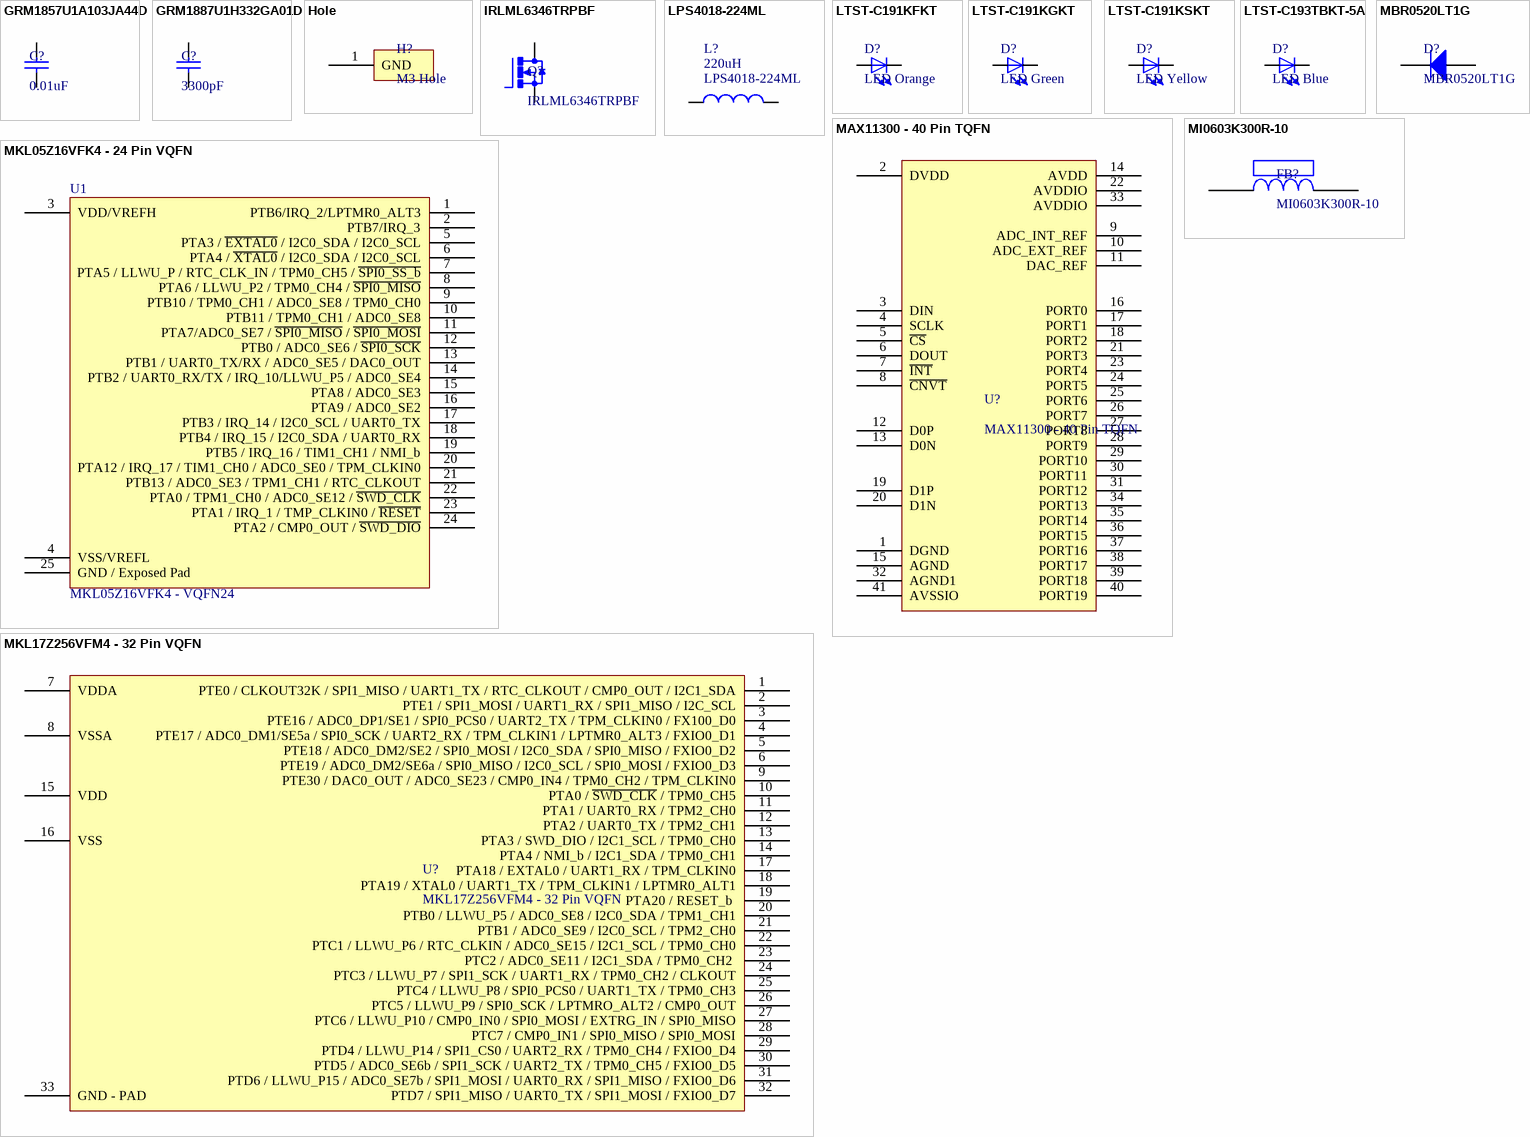
[diagram p2: symbols GRM1857U1A103JA44D to MKL17Z256VFM4 - 32 Pin VQFN]

## GRM1857U1A103JA44D
designator C?, comment 0.01uF
CAP CER 10000PF 10V U2J 0603; MFR #: GRM1857U1A103JA44D; MFR: Murata Electronics North America; Pin Count #: 2; Tolerance: 5%; Type: Passive/Ceramic Cap; Lead-Free ?: Yes; Voltage: 10VDC; Designer: Adam Vadala-Roth; Status: Active; Mounting: SMT/SMD; Datasheet: http://search.murata.co.jp/Ceramy/image/img/A01X/G101/ENG/GRM1857U1A103JA44-01.pdf; Height: 0.5m; Cost: 0.03580 @ 4000; Date Created: 4 Apr 2016; Last Modified: 4 Apr 2016; Value: 0.01uF
footprint C0603
pins: 1, 2

## GRM1887U1H332GA01D
designator C?, comment 3300pF
Multilayer Ceramic Capacitors MLCC - SMD/SMT 0.0033uF 50Volts U2J 2%; MFR #: GRM1887U1H332GA01D; MFR: Murata Electronics; Pin Count #: 2; Type: Ceramic Cap / Passive; Lead-Free ?: Yes; Voltage: 50VDC; Designer: Adam Vadala-Roth; Status: Active; Mounting: SMT/SMD; Datasheet: http://www.mouser.com/ds/2/281/c02e-2905.pdf; Height: 0.8mm; Tolerance: 2%; Cost: 0.076 @ 1000; Date Created: 6 May 2016; Last Modified: 6 May 2016; Value: 3300pF
footprint C0603
pins: 1, 2

## Hole
designator H?, comment M3 Hole
3mm Hole
footprint Hole-3mm
pins: 1 GND

## IRLML6346TRPBF
designator Q?
MOSFET N-CH 30V 3.4A SOT23; MFR: Infineon-Technologies-Americas-Corp.; Pin Count #: 3; Type: N-Channel MOSFET (NPN); Lead-Free ?: Yes; Designer: Adam Vadala-Roth; MFR #: IRLML6346TRPBF; Status: Active; Mounting: SMT/SMD; Datasheet: http://www.irf.com/product-info/datasheets/data/irlml6346pbf.pdf; Height: 1.12mm; Tolerance: *; Cost: 0.09720 @ 3000; Voltage: 30V; Date Created: 6 May 2016; Last Modified: 6 May 2016
pins: 1 S, 2 S, 3 S, 4 G, MB D

## LPS4018-224ML
designator L?  value 220uH
Inductor; MFR: Coilcraft; Published: 8-Jun-2000; LatestRevisionDate: April 2015; PackageReference: Coilcraft Custom; Publisher: Altium Limited; PackageDescription: Custom Wound SMD Inductor; MFR#: LPS4018-224ML; Height: 1.7mm
simulation model INDUCTOR (Inductor)
signal-integrity model Inductor
footprint LPS4018-224ML (Precision Wire Wound Inductor, 2-Leads, Body 4.40x3.90mm, IPC Medium Density)
pins: 1, 2

## LTST-C191KFKT
designator D?, comment LED Orange
LED ORANGE CLEAR 0603 SMD; MFR #: LTST-C191KFKT; MFR: Lite-On Inc.; Pin Count #: 2; Type: Passive/LED; Lead-Free ?: yes; Voltage: 2V; Designer: Adam Vadala-Roth; Status: Active; Mounting: SMT/SMD; Datasheet: http://optoelectronics.liteon.com/upload/download/DS22-2000-222/S_110_LTST-C191KFKT.pdf; Height: 0.55mm; Tolerance: N/A; Cost: 0.03760 @ 5000; Date Created: 4 Apr 2016; Last Modified: 4 Apr 2016; Value: LED Orange
footprint LED0603_ORANGE
pins: 1, 2

## LTST-C191KGKT
designator D?, comment LED Green
LED GREEN CLEAR 0603 SMD; MFR #: LTST-C191KGKT; MFR: Lite-On Inc.; Pin Count #: 2; Type: Passive/LED; Lead-Free ?: yes; Voltage: 2V; Designer: Adam Vadala-Roth; Status: Active; Mounting: SMT/SMD; Datasheet: http://optoelectronics.liteon.com/upload/download/DS22-2000-228/S_110_LTST-C191KGKT.pdf; Height: 0.55mm; Tolerance: N/A; Cost: 0.03760 @ 5000; Date Created: 4 Apr 2016; Last Modified: 4 Apr 2016; Value: LED Green
footprint LED0603_GREEN
pins: 1, 2

## LTST-C191KSKT
designator D?, comment LED Yellow
LED YELLOW CLEAR 0603 SMD; MFR #: LTST-C191KSKT; MFR: Lite-On Inc.; Pin Count #: 2; Type: Passive/LED; Lead-Free ?: yes; Voltage: 2V; Designer: Adam Vadala-Roth; Status: Active; Mounting: SMT/SMD; Datasheet: http://optoelectronics.liteon.com/upload/download/DS22-2000-224/S_110_LTST-C191KSKT.pdf; Height: 0.55mm; Tolerance: N/A; Cost: 2,500/0.05052; Date Created: 4 Apr 2016; Last Modified: 4 Apr 2016; Value: LED Yellow
footprint LED0603_YELLOW
pins: 1, 2

## LTST-C193TBKT-5A
designator D?, comment LED Blue
LED BLUE CLEAR 0603 SMD; MFR #: LTST-C193TBKT-5A; MFR: Lite-On Inc.; Pin Count #: 2; Type: Passive/LED; Lead-Free ?: yes; Voltage: 2V; Designer: Adam Vadala-Roth; Status: Active; Mounting: SMT/SMD; Datasheet: http://optoelectronics.liteon.com/upload/download/DS22-2004-060/P_100_LTST-C193TBKT-5A.pdf; Height: 0.55mm; Tolerance: N/A; Cost: 15,000/0.05424; Date Created: 4 Apr 2016; Last Modified: 4 Apr 2016; Value: LED Blue
footprint LED0603_BLUE
pins: 1, 2

## MAX11300 - 40 Pin TQFN
designator U?
MAX11300
footprint Maxim T4066+3 40 pin TQFN (QFN, 40-Leads, Body 6.00x6.00mm, Pitch 0.50mm, Thermal Pad 4.10x4.10mm, IPC Medium Density)
footprint MAXIM C48E+8 48 Pin TQFP (TSQFP, 48-Leads, Body 7.00x7.00mm, Pitch 0.50mm, Thermal Pad 5.30x5.30mm, IPC Medium Density)
pins: 1 DGND, 2 DVDD, 3 DIN, 4 SCLK, 5 ~{CS}, 6 DOUT, 7 ~{INT}, 8 ~{CNVT}, 9 ADC_INT_REF, 10 ADC_EXT_REF, 11 DAC_REF, 12 D0P, 13 D0N, 14 AVDD, 15 AGND, 16 PORT0, 17 PORT1, 18 PORT2, 19 D1P, 20 D1N, 21 PORT3, 22 AVDDIO, 23 PORT4, 24 PORT5, 25 PORT6, 26 PORT7, 27 PORT8, 28 PORT9, 29 PORT10, 30 PORT11, 31 PORT12, 32 AGND1, 33 AVDDIO, 34 PORT13, 35 PORT14, 36 PORT15, 37 PORT16, 38 PORT17, 39 PORT18, 40 PORT19, 41 AVSSIO

## MBR0520LT1G
designator D?
DIODE SCHOTTKY 20V 500MA SOD123; MFR: ON Semiconductor; Type: Diode Molded; Lead-Free ?: Yes; Voltage: 20VDC; Designer: Adam Vadala-Roth; MFR #: MBR0520LT1G; Status: Available; Pin Count #: *; Mounting: *; Datasheet: http://www.onsemi.com/pub_link/Collateral/MBR0520LT1-D.PDF; Tolerance: *; Cost: $ 0.05658; Date Created: 25 Feb 2016; Last Modified: 25 Feb 2016; Package: SOD-123 Molded Plastic Diode Package; Current: 500mA
footprint MBR0520LT1G - DIOM2716X14N (Molded Diode, 2-Leads, Body 2.69x1.60mm, IPC Medium Density)
pins: 1 A, 2 K

## MI0603K300R-10
designator FB?
FERRITE BEAD 30 OHM 0603 1LN; MFR: Laird-Signal Integrity Products; Pin Count #: 2; Tolerance: 90 mOhm; Type: Passive / Ferrite; Lead-Free ?: Yes; Designer: Adam Vadala-Roth; MFR #: MI0603K300R-10; Status: Active; Mounting: SMT/SMD; Datasheet: https://media.digikey.com/pdf/Data%20Sheets/Steward%20PDFs/Part%20Number%20Guide.pdf; Height: 0.95mm; Cost: 0.01920 @ 4000; Voltage: *; Date Created: 4 Apr 2016; Last Modified: 4 Apr 2016; Value: MI0603K300R-10
footprint MI0603K300R-10 (Chip Inductor, 2-Leads, Body 1.60x0.80mm, IPC Medium Density)
pins: 1, 2

## MKL05Z16VFK4 - 24 Pin VQFN
designator U1, comment MKL05Z16VFK4 - VQFN24
ARM Cortex M0+
footprint 98ASA00474D (QFN, 24-Leads, Body 3.98x3.98mm, Pitch 0.50mm, Thermal Pad 2.80x2.80mm, IPC Medium Density)
pins: 1 PTB6/IRQ_2/LPTMR0_ALT3, 2 PTB7/IRQ_3, 3 VDD/VREFH, 4 VSS/VREFL, 5 PTA3 / ~{EXTAL0} / I2C0_SDA / I2C0_SCL, 6 PTA4 / ~{XTAL0} / I2C0_SDA / I2C0_SCL, 7 PTA5 / LLWU_P / RTC_CLK_IN / TPM0_CH5 / ~{SPI0_SS_b}, 8 PTA6 / LLWU_P2 / TPM0_CH4 / ~{SPI0_MISO}, 9 PTB10 / TPM0_CH1 / ADC0_SE8 / TPM0_CH0, 10 PTB11 / TPM0_CH1 / ADC0_SE8, 11 PTA7/ADC0_SE7 / ~{SPI0_MISO} / ~{SPI0_MOSI}, 12 PTB0 / ADC0_SE6 / ~{SPI0_SCK}, 13 PTB1 / UART0_TX/RX / ADC0_SE5 / DAC0_OUT, 14 PTB2 / UART0_RX/TX / IRQ_10/LLWU_P5 / ADC0_SE4, 15 PTA8 / ADC0_SE3, 16 PTA9 / ADC0_SE2, 17 PTB3 / IRQ_14 / I2C0_SCL / UART0_TX, 18 PTB4 / IRQ_15 / I2C0_SDA / UART0_RX, 19 PTB5 / IRQ_16 / TIM1_CH1 / NMI_b, 20 PTA12 / IRQ_17 / TIM1_CH0 / ADC0_SE0 / TPM_CLKIN0, 21 PTB13 / ADC0_SE3 / TPM1_CH1 / RTC_CLKOUT, 22 PTA0 / TPM1_CH0 / ADC0_SE12 / ~{SWD_CLK}, 23 PTA1 / IRQ_1 / TMP_CLKIN0 / ~{RESET}, 24 PTA2 / CMP0_OUT / ~{SWD_DIO}, 25 GND / Exposed Pad

## MKL17Z256VFM4 - 32 Pin VQFN
designator U?
ARM Cortex M0+ Microcontroller for Low Power Applications, MKL1x Series; MFR: NXP - FreeScale; Pin Count #: 32; Lead-Free ?: Yes; Voltage: 1.7-3.3VDC; Designer: Adam Vadala-Roth; MFR #: MKL17Z256VFM4; Status: Active; Mounting: SMT/SMD; Datasheet: *; Height: *; Tolerance: *; Cost: *; Type: IC; Date Created: 9 Mar 2016; Last Modified: 9 Mar 2016
footprint MKL17Z256VFM4 - QFN50P500X500X65_HS-33N (QFN, 32-Leads, Body 5.00x5.00mm, Pitch 0.50mm, Thermal Pad 3.60x3.60mm, IPC Medium Density)
pins: 1 PTE0 / CLKOUT32K / SPI1_MISO / UART1_TX / RTC_CLKOUT / CMP0_OUT / I2C1_SDA, 2 PTE1 / SPI1_MOSI / UART1_RX / SPI1_MISO / I2C_SCL, 3 PTE16 / ADC0_DP1/SE1 / SPI0_PCS0 / UART2_TX / TPM_CLKIN0 / FX100_D0, 4 PTE17 / ADC0_DM1/SE5a / SPI0_SCK / UART2_RX / TPM_CLKIN1 / LPTMR0_ALT3 / FXIO0_D1, 5 PTE18 / ADC0_DM2/SE2 / SPI0_MOSI / I2C0_SDA / SPI0_MISO / FXIO0_D2, 6 PTE19 / ADC0_DM2/SE6a / SPI0_MISO / I2C0_SCL / SPI0_MOSI / FXIO0_D3, 7 VDDA, 8 VSSA, 9 PTE30 / DAC0_OUT / ADC0_SE23 / CMP0_IN4 / TPM0_CH2 / TPM_CLKIN0, 10 PTA0 / ~{SWD_CLK} / TPM0_CH5, 11 PTA1 / UART0_RX / TPM2_CH0, 12 PTA2 / UART0_TX / TPM2_CH1, 13 PTA3 / SWD_DIO / I2C1_SCL / TPM0_CH0, 14 PTA4 / NMI_b / I2C1_SDA / TPM0_CH1, 15 VDD, 16 VSS, 17 PTA18 / EXTAL0 / UART1_RX / TPM_CLKIN0, 18 PTA19 / XTAL0 / UART1_TX / TPM_CLKIN1 / LPTMR0_ALT1, 19 PTA20 / RESET_b , 20 PTB0 / LLWU_P5 / ADC0_SE8 / I2C0_SDA / TPM1_CH1, 21 PTB1 / ADC0_SE9 / I2C0_SCL / TPM2_CH0, 22 PTC1 / LLWU_P6 / RTC_CLKIN / ADC0_SE15 / I2C1_SCL / TPM0_CH0, 23 PTC2 / ADC0_SE11 / I2C1_SDA / TPM0_CH2 , 24 PTC3 / LLWU_P7 / SPI1_SCK / UART1_RX / TPM0_CH2 / CLKOUT, 25 PTC4 / LLWU_P8 / SPI0_PCS0 / UART1_TX / TPM0_CH3, 26 PTC5 / LLWU_P9 / SPI0_SCK / LPTMRO_ALT2 / CMP0_OUT, 27 PTC6 / LLWU_P10 / CMP0_IN0 / SPI0_MOSI / EXTRG_IN / SPI0_MISO, 28 PTC7 / CMP0_IN1 / SPI0_MISO / SPI0_MOSI, 29 PTD4 / LLWU_P14 / SPI1_CS0 / UART2_RX / TPM0_CH4 / FXIO0_D4, 30 PTD5 / ADC0_SE6b / SPI1_SCK / UART2_TX / TPM0_CH5 / FXIO0_D5, 31 PTD6 / LLWU_P15 / ADC0_SE7b / SPI1_MOSI / UART0_RX / SPI1_MISO / FXIO0_D6, 32 PTD7 / SPI1_MISO / UART0_TX / SPI1_MOSI / FXIO0_D7, 33 GND - PAD